# Altium footprint library IFX-PG-TSDSON-8-26-V.PcbLib: 1 footprints
Each footprint in its own frame and in the unit in brackets; x right, y up, seen from the top. Pads: shape width x height; smd on the part's side, far side on the other; paste and mask are expansions set on the pad; w line width, h text height; cw(c..) or ccw(c..) is an arc to the next point about the centre after c.
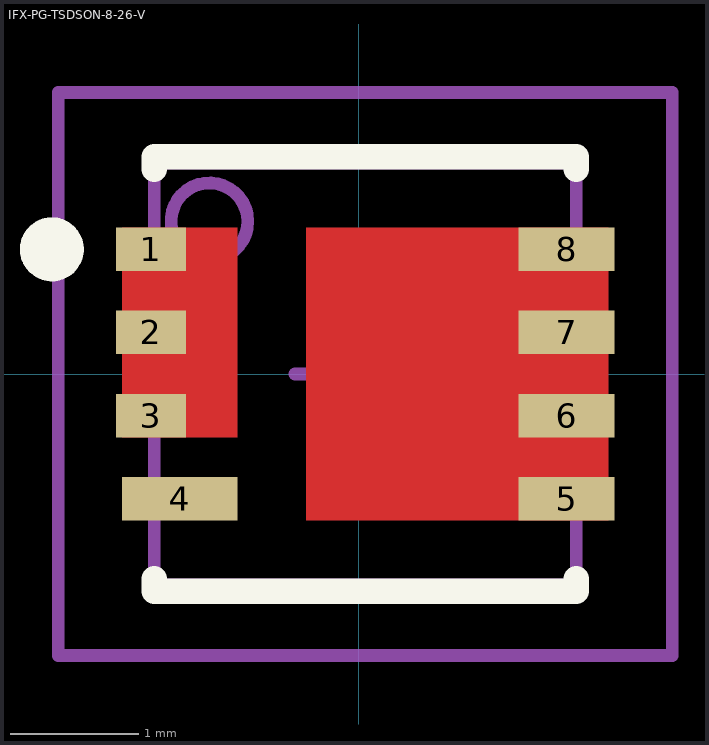
[diagram p0: the footprint, top view; thin cyan lines are the x and y axes]

## IFX-PG-TSDSON-8-26-V [mm] "TSDSON, SMD, 0.65 mm pitch, 8 pin, 3.30 mm W X 3.30 mm L X 1.10 mm H body"
height 1.1
pads (8):
  rect 0.55x0.34 smd paste-0.45 mask+0: 1(-1.625,0.975) 2(-1.625,0.325) 3(-1.625,-0.325)
  rect 0.9x0.34 smd paste-0.17 mask+0: 4(-1.4,-0.975)
  rect 0.75x0.34 smd paste-0.65 mask+0: 5(1.625,-0.975) 6(1.625,-0.325) 7(1.625,0.325) 8(1.625,0.975)
Top Layer:
  region: -0.95,1.145 -1.85,1.145 -1.85,-0.495 -0.95,-0.495
  region: -0.41,1.145 -0.41,-1.145 1.95,-1.145 1.95,1.145
Top Overlay:
  circle w0.25: c-2.401,0.975 r0.125
  lines w0.2: -1.6,-1.6 -1.6,-1.7 1.7,-1.7 1.7,-1.6 ; -1.6,1.6 -1.6,1.7 1.7,1.7 1.7,1.6
Top Paste:
  drawing of 13 lines, arcs and shapes, not listed
Top Solder:
  region: -0.95,1.145 -1.4,1.145 -1.4,-0.495 -0.95,-0.495
  region: -0.41,1.145 -0.41,-1.145 1.3,-1.145 1.3,1.145
M3 (ASY_Text_Top):
  text ".DESIGNATOR" at 0,0 h1.2
M13 (CMP_Body_OTL_Top):
  circle w0.1: c-1.168,1.194 r0.3
  lines w0.1: -1.6,-1.65 1.7,-1.65 1.7,1.65 -1.6,1.65 -1.6,-1.65
M15 (CMP_Courtyard_Top):
  lines w0.1: -2.35,-2.2 -2.35,2.2 ; -2.35,-2.2 2.45,-2.2 2.45,2.2 -2.35,2.2 ; -0.5,0 0.5,0 ; 0,-0.5 0,0.5
3D body "PG-TSDSON-8-26_Z8B00157108_V02_3D.stp": height 1.01, standoff 0, extent -1.6,-1.65 1.7,1.65